# EAGLE library part SI4663F30 (library Phase_2)
1W Long Range RF Module from NiceRF. Si4663F30
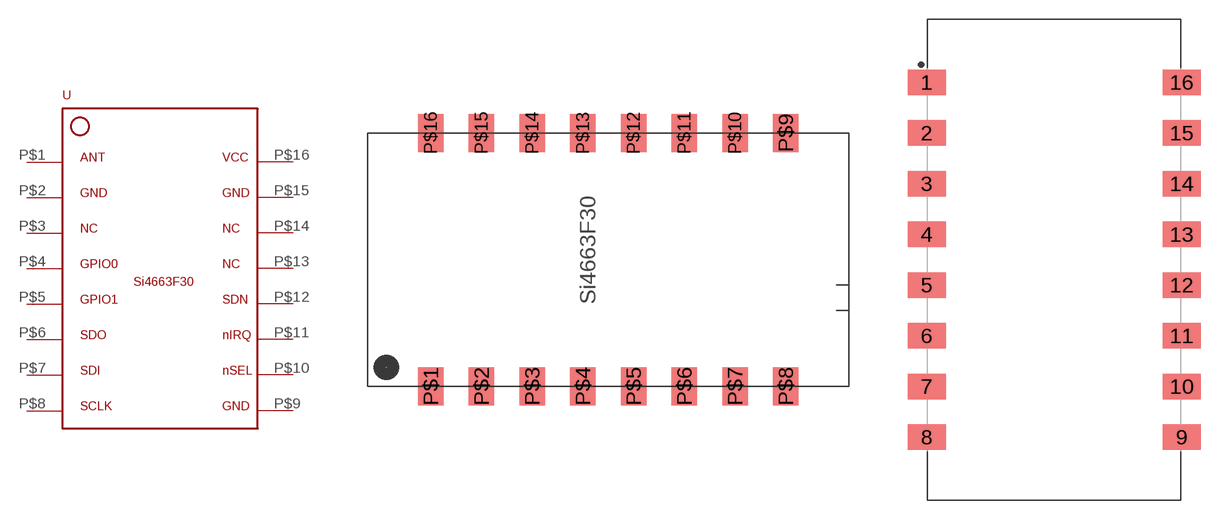
[diagram p0: symbol with the pads of SI4663F30; footprints SI4663F30, INDCAV400P3800X2000X400-16N]

Designator prefix -

## SI4663F30  [SI4663F30]
P$1  P$1
P$2  P$2
P$3  P$3
P$4  P$4
P$5  P$5
P$6  P$6
P$7  P$7
P$8  P$8
P$9  P$9
P$10  P$10
P$11  P$11
P$12  P$12
P$13  P$13
P$14  P$14
P$15  P$15
P$16  P$16

## SI4663F30SI4663F30-3D  [INDCAV400P3800X2000X400-16N]
1  P$1
2  P$2
3  P$3
4  P$4
5  P$5
6  P$6
7  P$7
8  P$8
9  P$9
10  P$10
11  P$11
12  P$12
13  P$13
14  P$14
15  P$15
16  P$16

## Footprint SI4663F30 (pad centres in mm)
The package of Si4663F30 shown on the diven datasheet from NiceRF
smd 2 x 3: P$1 -14,-10; P$2 -10,-10; P$3 -6,-10; P$4 -2,-10; P$5 2,-10; P$6 6,-10; P$7 10,-10; P$8 14,-10; P$9 14,10; P$10 10,10; P$11 6,10; P$12 2,10; P$13 -2,10; P$14 -6,10; P$15 -10,10; P$16 -14,10

## Footprint INDCAV400P3800X2000X400-16N (pad centres in mm)
16-Chiparray 2-Side Flat, 4.00 mm pitch, 38.00 X 20.00 X 4.00 mm body 16-pin Chiparray 2-Side Flat package with 4.00 mm pitch with body size 38.00 X 20.00 X 4.00 mm
smd 3 x 2: 1 -10.06,14; 2 -10.06,10; 3 -10.06,6; 4 -10.06,2; 5 -10.06,-2; 6 -10.06,-6; 7 -10.06,-10; 8 -10.06,-14; 9 10.06,-14; 10 10.06,-10; 11 10.06,-6; 12 10.06,-2; 13 10.06,2; 14 10.06,6; 15 10.06,10; 16 10.06,14